# Altium schematic symbol library TPS563231DRLR.SchLib: 1 symbol
Pins are listed as number, name and electrical type; pins without a type are passive.

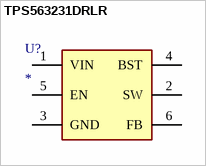
[diagram p0: symbol TPS563231DRLR]

## TPS563231DRLR
designator U?
Integrated Circuit; Manufacturer_Name: Texas Instruments; Manufacturer_Part_Number: TPS563231DRLR; Datasheet Link: http://www.ti.com/lit/gpn/TPS563231; Height: 0.6mm; Mouser Part Number: 595-TPS563231DRLR; Mouser Price/Stock: https://www.mouser.co.uk/ProductDetail/Texas-Instruments/TPS563231DRLR?qs=9r4v7xj2LnkEuOskP1euBg%3D%3D; Arrow Part Number: TPS563231DRLR; Arrow Price/Stock: https://www.arrow.com/en/products/tps563231drlr/texas-instruments
footprint SOT-6
pins: 1 VIN, 2 SW, 3 GND, 4 BST, 5 EN, 6 FB